# Altium schematic symbol library GPS.SchLib: 1 symbol
Pins are listed as number, name and electrical type; pins without a type are passive.

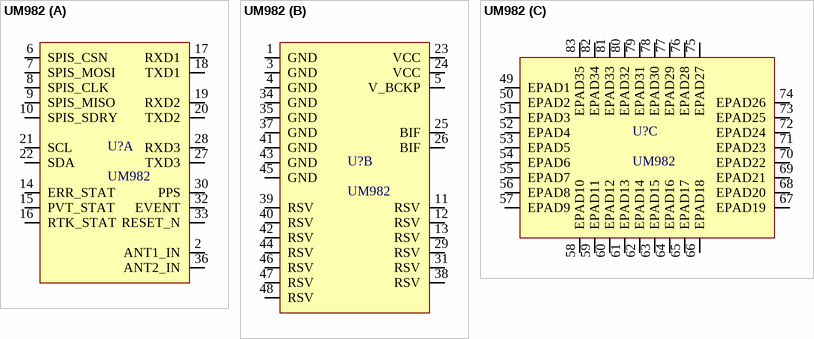
[diagram p0: symbol UM982]

## UM982
designator U?
GPS/BDS/GLONASS/Galileo/QZSS / All-constellation Multi-frequency / High Precision Positioning & Heading Module; Manufacturer: Unicore; Part #: UM982
footprint UM982 (Dual channel gps)
part A pins: 2 ANT1_IN (io), 6 SPIS_CSN (io), 7 SPIS_MOSI (io), 8 SPIS_CLK (io), 9 SPIS_MISO (io), 10 SPIS_SDRY (io), 14 ERR_STAT (io), 15 PVT_STAT (io), 16 RTK_STAT (io), 17 RXD1 (io), 18 TXD1 (io), 19 RXD2 (io), 20 TXD2 (io), 21 SCL (io), 22 SDA (io), 27 TXD3 (io), 28 RXD3 (io), 30 PPS (io), 32 EVENT (io), 33 RESET_N (io), 36 ANT2_IN (io)
part B pins: 1 GND (power), 3 GND (power), 4 GND (power), 5 V_BCKP (power), 11 RSV (power), 12 RSV (power), 13 RSV (power), 23 VCC (power), 24 VCC (power), 25 BIF (power), 26 BIF (power), 29 RSV (power), 31 RSV (power), 34 GND (power), 35 GND (power), 37 GND (power), 38 RSV (power), 39 RSV (power), 40 RSV (power), 41 GND (power), 42 RSV (power), 43 GND (power), 44 RSV (power), 45 GND (power), 46 RSV (power), 47 RSV (power), 48 RSV (power)
part C pins: 49 EPAD1 (power), 50 EPAD2 (power), 51 EPAD3 (power), 52 EPAD4 (power), 53 EPAD5 (power), 54 EPAD6 (power), 55 EPAD7 (power), 56 EPAD8 (power), 57 EPAD9 (power), 58 EPAD10 (power), 59 EPAD11 (power), 60 EPAD12 (power), 61 EPAD13 (power), 62 EPAD14 (power), 63 EPAD15 (power), 64 EPAD16 (power), 65 EPAD17 (power), 66 EPAD18 (power), 67 EPAD19 (power), 68 EPAD20 (power), 69 EPAD21 (power), 70 EPAD22 (power), 71 EPAD23 (power), 72 EPAD24 (power), 73 EPAD25 (power), 74 EPAD26 (power), 75 EPAD27 (power), 76 EPAD28 (power), 77 EPAD29 (power), 78 EPAD30 (power), 79 EPAD31 (power), 80 EPAD32 (power), 81 EPAD33 (power), 82 EPAD34 (power), 83 EPAD35 (power)